# EAGLE library part RJ45 (library blinkinlabs)
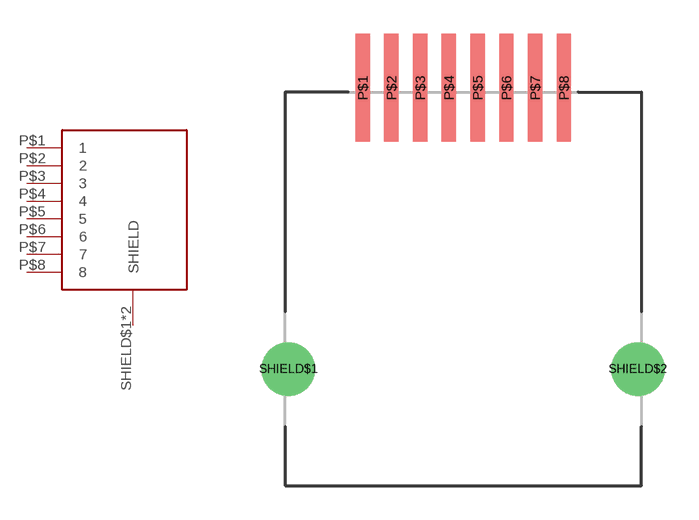
[diagram p34: symbol with the pads of RJ45_SMD_RJLSE4X38101T; footprint RJ45_SMD_RJLSE4X38101T]

Designator prefix -

## RJ45  [RJ45_SMD_RJLSE4X38101T]
P$1  1
P$2  2
P$3  3
P$4  4
P$5  5
P$6  6
P$7  7
P$8  8
SHIELD$1  SHIELD
SHIELD$2  SHIELD

## Footprint RJ45_SMD_RJLSE4X38101T (pad centres in mm)
smd 0.635 x 4.75: P$1 -4.445,12.433; P$2 -3.175,12.433; P$3 -1.905,12.433; P$4 -0.635,12.433; P$5 0.635,12.433; P$6 1.905,12.433; P$7 3.175,12.433; P$8 4.445,12.433
drill 1.575: SHIELD$1 -7.722,0; SHIELD$2 7.722,0